# EAGLE library part RELAY-IM (library eagle-lib)
AXICOM Signal Realy - IM family
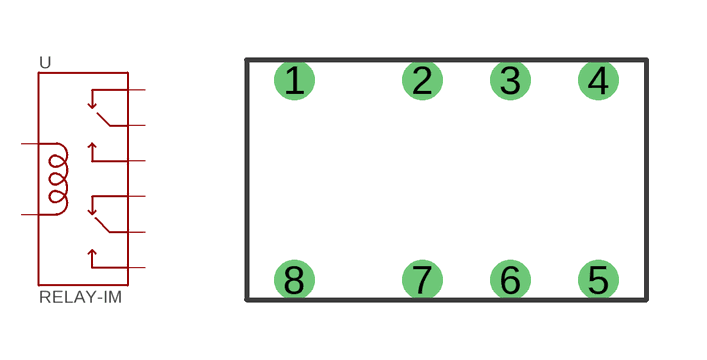
[diagram p4: symbol with the pads of RELAY-IM; footprint RELAY-IM]

Designator prefix -

## RELAY-IMG5Q  [RELAY-IM]
1  1
2  2
3  3
4  4
5  5
6  6
7  7
8  8

## Footprint RELAY-IM (pad centres in mm)
G5Q SPDT Relay (SparkFun SKU: COM-00100). Footprint should also work with SPST-NO relay.
drill 0.5: 1 -4.03,2.38; 2 -0.83,2.38; 3 1.37,2.38; 4 3.57,2.38; 5 3.57,-2.62; 6 1.37,-2.62; 7 -0.83,-2.62; 8 -4.03,-2.62